# Altium footprint library DataAcquisitonBoard.PcbLib: 21 footprints (part 1 of 2)
Each footprint in its own frame and in the unit in brackets; x right, y up, seen from the top. Pads: shape width x height; smd on the part's side, far side on the other; paste and mask are expansions set on the pad; w line width, h text height; cw(c..) or ccw(c..) is an arc to the next point about the centre after c.
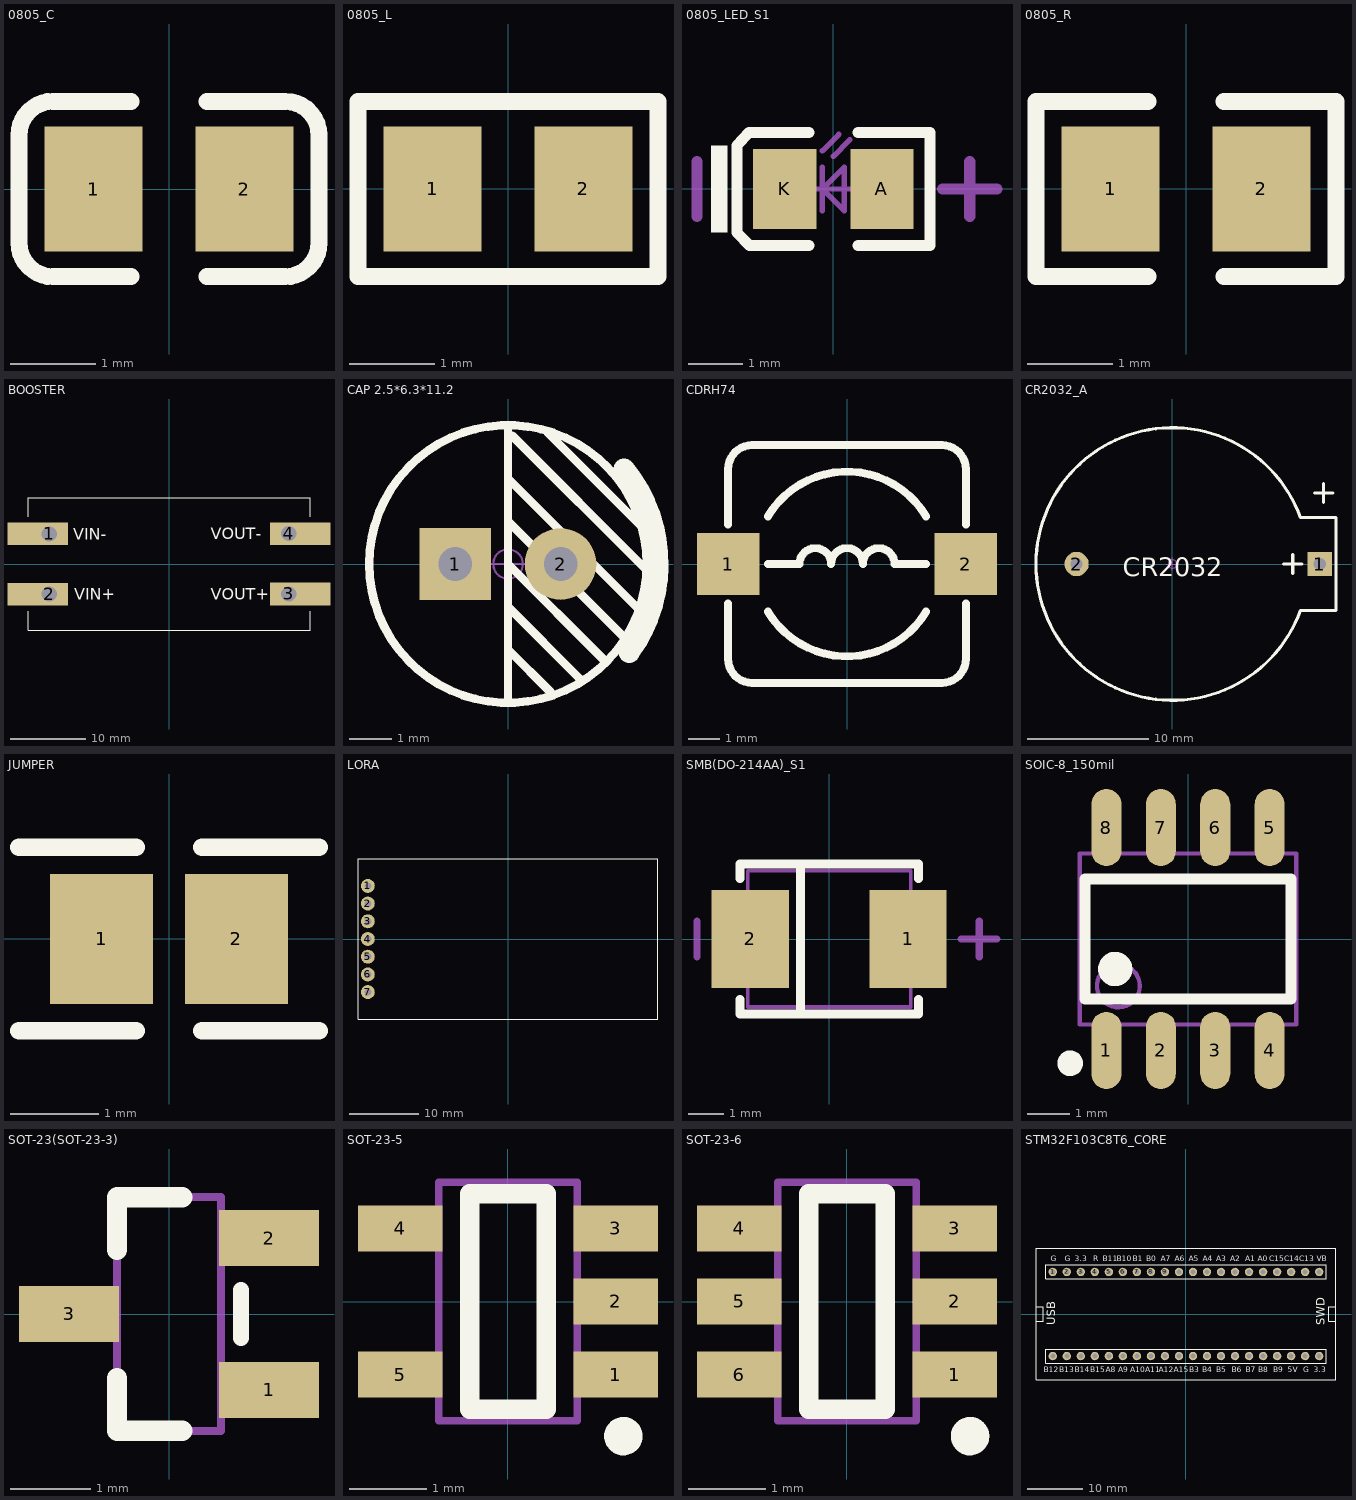
[diagram p0: the footprints below, top view; thin cyan lines are the x and y axes]

## 0805_C [mm]
pads (2):
  rect 1.16x1.47 smd: 1(-0.89,0) 2(0.89,0)
Top Overlay:
  lines w0.2: -0.45,-1.035 -1.37,-1.035 cw(c-1.37,-0.635) -1.77,-0.635 -1.77,0.635 cw(c-1.37,0.635) -1.37,1.035 -0.45,1.035 ; 0.45,-1.035 1.37,-1.035 ccw(c1.37,-0.635) 1.77,-0.635 1.77,0.635 ccw(c1.37,0.635) 1.37,1.035 0.45,1.035
3D body "User Library-0805 SMD Capacitor.STEP": height 0.77, standoff -0.01, extent -0.999,-0.625 1.001,0.625

## 0805_L [mm]
pads (2):
  rect 1.16x1.47 smd: 1(-0.89,0) 2(0.89,0)
Top Overlay:
  lines w0.2: -1.77,-1.035 -1.77,1.035 1.77,1.035 1.77,-1.035 -1.77,-1.035
3D body "L0805.STEP": height 0.6, standoff -0.02, extent -1.022,-0.637 1.028,0.638

## 0805_LED_S1 [mm]
pads (2):
  rect 1.16x1.47 smd: A(0.89,0) K(-0.89,0)
Top Overlay:
  rectangle: -2.245,-0.8 -1.945,0.8
  lines w0.2: -0.45,-1.035 -1.535,-1.035 -1.77,-0.8 -1.77,0.8 -1.55,1.035 -0.45,1.035 ; 0.45,-1.035 1.77,-1.035 1.77,1.035 0.45,1.035
Mechanical 13:
  lines w0.1: -0.4,0 0.4,0 ; -0.2,-0.4 -0.2,0.4 ; -0.2,0.7 0.1,1 ; 0,0.6 0.3,0.9 ; -0.2,0 0.2,0.4 0.2,-0.4 -0.2,0
Mechanical 15:
  lines w0.203: -2.5,-0.5 -2.5,0.5 ; 2,0 3,0 ; 2.5,-0.5 2.5,0.5
3D body "User Library-led_0805.step": height 1.1, standoff 0, extent -1.01,-0.625 1.01,0.625

## 0805_R [mm]
pads (2):
  rect 1.16x1.47 smd: 1(-0.89,0) 2(0.89,0)
Top Overlay:
  lines w0.2: -0.45,-1.035 -1.77,-1.035 -1.77,1.035 -0.45,1.035 ; 0.45,-1.035 1.77,-1.035 1.77,1.035 0.45,1.035
3D body "User Library-R_0805.STEP": height 0.49, standoff -0.01, extent -0.997,-0.625 1.003,0.625

## BOOSTER [mm] "DCDC升压模块"
pads (4):
  rect 8x3 hole 2 copper offset -1.5,0: 1(-15.9,3.988) 2(-15.9,-3.988)
  rect 8x3 hole 2 copper offset 1.5,0: 3(15.799,-3.962) 4(15.799,4.013)
Top Overlay:
  lines w0.152: -18.65,-6.255 -18.65,-8.75 0,-8.75 18.65,-8.75 18.65,-6.255 ; -18.65,6.255 -18.65,8.75 0,8.75 18.65,8.75 18.65,6.255
  text "VIN-" at -12.7,3.226 h1.52
  text "VIN+" at -12.573,-4.75 h1.52
  text "VOUT-" at 5.461,3.251 h1.52
  text "VOUT+" at 5.461,-4.724 h1.52

## CAP 2.5*6.3*11.2 [mm] "脚距2.5mm直径6.3mm高度11.2mm"
pads (2):
  rect 1.7x1.7 hole 0.8: 1(-1.25,0)
  round 1.7 hole 0.8: 2(1.25,0)
Top Overlay:
  circle w0.2: c0,0 r3.3
  lines w0.2: 0,-3.226 0,3.277 ; 0,-2.032 1.016,-3.048 ; 0,-1.016 1.727,-2.743 ; 0,0 2.299,-2.299 ; 0,1.016 2.769,-1.753 2.87,-1.753 ; 0,2.032 3.099,-1.067 ; 0,3.048 0.102,3.048 3.302,-0.152 ; 0.927,3.137 3.124,0.94 3.2,0.94
  lines w0.504: 2.759,2.258 cw(c0,0) 2.883,-2.097
Mechanical 15:
  circle w0.05: c0,0 r0.35
  lines w0.05: -0.5,0 0.5,0 ; 0,-0.5 0,0.5
3D body "CAP 2.5X6.3X11.2.STEP": height 11.23, standoff -3.38, extent -3.15,-3.15 3.16,3.15

## CDRH74 [mm] "7.3*7.3*4.5mm（长宽高）"
pads (2):
  rect 2x2 smd: 1(-3.81,0) 2(3.81,0)
Top Overlay:
  lines w0.254: -3.81,-1.27 -3.81,-3.048 ccw(c-3.048,-3.048) -3.048,-3.81 3.048,-3.81 ccw(c3.048,-3.048) 3.81,-3.048 3.81,-1.27 ; -3.81,1.27 -3.81,3.048 cw(c-3.048,3.048) -3.048,3.81 3.048,3.81 cw(c3.048,3.048) 3.81,3.048 3.81,1.27 ; -2.54,-1.524 ccw(c0,0) 2.54,-1.524 ; -2.54,0 -1.524,0 cw(c-1.016,0) -0.508,0 cw(c0,0) 0.508,0 cw(c1.016,0) 1.524,0 2.54,0 ; -2.54,1.524 cw(c0,0) 2.54,1.524
3D body "CDRH74.STEP": height 4.5, standoff 0, extent -3.65,-3.65 3.65,3.65

## CR2032_A [mm] "纽扣电池座"
pads (2):
  rect 2x2 hole 1: 1(12.126,0)
  round 2 hole 1: 2(-7.874,0)
Top Overlay:
  lines w0.254: 9.144,0 10.668,0 ; 9.906,-0.762 9.906,0.762 ; 11.684,5.842 13.208,5.842 ; 12.446,5.08 12.446,6.604 ; 10.541,-3.81 cw(c0,0) 10.541,3.81 13.462,3.81 13.462,-3.81 10.541,-3.81
  text "CR2032" at -4.064,-1.016 h1.52
Mechanical 15:
  circle w0.05: c0,0 r0.35
  lines w0.05: -0.5,0 0.5,0 ; 0,-0.5 0,0.5
3D body "CR2032_A.STEP": height 8.75, standoff -3.05, extent -11.1,-11.099 13.3,11.099

## JUMPER [mm]
pads (2):
  rect 1.16x1.47 smd: 1(-0.762,0) 2(0.762,0)
Top Overlay:
  lines w0.2: -1.694,-1.035 -0.374,-1.035 ; -1.694,1.035 -0.374,1.035 ; 0.374,-1.035 1.694,-1.035 ; 0.374,1.035 1.694,1.035
3D body "User Library-R_0805.STEP": height 0.49, standoff -0.01, extent -0.997,-0.625 1.003,0.625

## LORA [mm] "AS32-TTL-1W"
pads (7):
  round 2 hole 1: 1(-20.091,7.62) 2(-20.091,5.08) 3(-20.091,2.54) 4(-20.091,0) 5(-20.091,-2.54) 6(-20.091,-5.08) 7(-20.091,-7.62)
Top Overlay:
  lines w0.152: -21.5,-11.5 0,-11.5 21.5,-11.5 21.5,0 21.5,11.5 0,11.5 -21.5,11.5 -21.5,0 -21.5,-11.5

## SMB(DO-214AA)_S1 [mil]
pads (2):
  rect 85x107.99 smd: 1(87.01,0) 2(-87.01,0)
Top Overlay:
  lines w10: -98.43,-66.93 -98.43,-82.68 98.43,-82.68 98.43,-66.93 ; -98.43,66.93 -98.43,82.68 98.43,82.68 98.43,66.93 ; -31.5,-82.68 -31.5,82.68
Mechanical 13:
  lines w3.94: -89.96,-75 89.96,-75 89.96,75 -89.96,75 -89.96,-75
Mechanical 15:
  lines w8: -145.67,-19.68 -145.67,19.68 ; 145.67,0 185.04,0 ; 165.35,-19.68 165.35,19.68

## SOIC-8_150mil [mm]
pads (8):
  oval 0.7x1.8 smd: 1(-1.905,-2.6) 2(-0.635,-2.6) 3(0.635,-2.6) 4(1.905,-2.6) 5(1.905,2.6) 6(0.635,2.6) 7(-0.635,2.6) 8(-1.905,2.6)
Top Overlay:
  circle w0.4: c-1.7,-0.7 r0.2
  circle w0.3: c-2.75,-2.9 r0.15
  lines w0.254: -2.4,-1.4 -2.4,1.4 2.4,1.4 2.4,-1.4 -2.4,-1.4
Mechanical 13:
  circle w0.1: c-1.625,-1.095 r0.5
  lines w0.1: -2.525,-1.995 -2.525,1.995 2.525,1.995 2.525,-1.995 -2.525,-1.995

## SOT-23(SOT-23-3) [mm]
pads (3):
  rect 1.25x0.7 smd: 1(1.25,-0.95) 2(1.25,0.95) 3(-1.25,0)
Top Overlay:
  lines w0.2: 0.9,-0.3 0.9,0.3
  lines w0.254: -0.65,-0.8 -0.65,-1.46 0.165,-1.46 ; 0.165,1.46 -0.65,1.46 ; -0.65,0.8 -0.65,1.46 ; -0.65,0.8 -0.65,1.46 ; -0.65,0.8 -0.65,1.46
Mechanical 13:
  lines w0.1: -0.65,-1.46 -0.65,1.46 ; -0.65,-1.46 0.65,-1.46 ; -0.65,-1.46 -0.65,1.46 ; -0.65,-1.46 0.65,-1.46 ; -0.65,-1.46 0.65,-1.46 ; -0.65,-1.46 -0.65,1.46 ; -0.65,1.46 0.65,1.46 ; -0.65,1.46 0.65,1.46 ; -0.65,1.46 0.65,1.46 ; 0.65,-1.46 0.65,1.46 ; 0.65,-1.46 0.65,1.46 ; 0.65,-1.46 0.65,1.46
3D body "SOT-23.step": height 1.3, standoff 0, extent -1.5,-1.5 1.5,1.5

## SOT-23-5 [mm]
pads (5):
  rect 1.1x0.6 smd: 1(1.4,-0.95) 2(1.4,0) 3(1.4,0.95) 4(-1.4,0.95) 5(-1.4,-0.95)
Top Overlay:
  circle w0.25: c1.5,-1.75 r0.125
  lines w0.254: -0.5,-1.4 -0.5,1.4 0.5,1.4 0.5,-1.4 -0.5,-1.4
Mechanical 13:
  lines w0.1: -0.9,-1.55 0.9,-1.55 0.9,1.55 -0.9,1.55 -0.9,-1.55

## SOT-23-6 [mm]
pads (6):
  rect 1.1x0.6 smd: 1(1.4,-0.95) 2(1.4,0) 3(1.4,0.95) 4(-1.4,0.95) 5(-1.4,0) 6(-1.4,-0.95)
Top Overlay:
  circle w0.25: c1.6,-1.75 r0.125
  lines w0.254: -0.5,-1.4 0.5,-1.4 0.5,1.4 -0.5,1.4 -0.5,-1.4
Mechanical 13:
  lines w0.1: -0.9,-1.55 0.9,-1.55 0.9,1.55 -0.9,1.55 -0.9,-1.55

## STM32F103C8T6_CORE [mil] "STM32F103C8T6核心板"
pads (40):
  round 60 hole 35.43: 1(-950,300) 2(-850,300) 3(-750,300) 4(-650,300) 5(-550,300) 6(-450,300) 7(-350,300) 8(-250,300) 9(-150,300) 10(-50,300) 11(50,300) 12(150,300) 13(250,300) 14(350,300) 15(450,300) 16(550,300) 17(650,300) 18(750,300) 19(850,300) 20(950,300) 21(-950,-300) 22(-850,-300) 23(-750,-300) 24(-650,-300) 25(-550,-300) 26(-450,-300) 27(-350,-300) 28(-250,-300) 29(-150,-300) 30(-50,-300) 31(50,-300) 32(150,-300) 33(250,-300) 34(350,-300) 35(450,-300) 36(550,-300) 37(650,-300) 38(750,-300) 39(850,-300) 40(950,-300)
Top Overlay:
  lines w5.98: -1069,50 -1019,50 -1019,0 -1019,-50 -1068,-50 ; 1069,50 1020,50 1020,0 1020,-50 1070,-50 ; -1069.68,-469.69 0,-469.69 1069.68,-469.69 1069.68,0 1069.68,469.69 0,469.69 -1069.68,469.69 -1069.68,0 -1069.68,-469.69 ; -1000,-350 1000,-350 1000,-300 1000,-250 -1000,-250 -1000,-300 -1000,-350 ; -1000,250 -1000,300 -1000,350 1000,350 1000,300 1000,250 -1000,250
  text "SWD" at 990,-80 h60
  text "USB" at -934,-79 h60
  text "G" at -963,376 h40
  text "G" at -863,376 h40
  text "3.3" at -794,376 h40
  text "VB" at 932,376 h40
  text "A7" at -181,376 h40
  text "C15C14C13" at 593,376 h40
  text "A6" at -81,376 h40
  text "A5" at 20,376 h40
  text "A4" at 118,376 h40
  text "A3" at 217.43,376 h40
  text "A2" at 315.29,376 h40
  text "A1" at 422,376 h40
  text "A0" at 511,376 h40
  text "B0" at -284,376 h40
  text "B1" at -379,376 h40
  text "B10" at -494,376 h40
  text "B11" at -593,376 h40
  text "R" at -663,376 h40
  text "3.3" at 912,-417 h40
  text "G" at 837,-417 h40
  text "5V" at 727,-417 h40
  text "B9" at 622,-417 h40
  text "B8" at 517,-417 h40
  text "B7" at 427,-417 h40
  text "B6" at 327,-417 h40
  text "B5" at 217,-417 h40
  text "B4" at 117,-417 h40
  text "B3" at 25,-417 h40
  text "A15" at -87,-417 h40
  text "A12" at -195,-417 h40
  text "A11" at -290,-417 h40
  text "A10" at -398,-417 h40
  text "A9" at -483,-417 h40
  text "A8" at -573,-417 h40
  text "B15" at -683,-417 h40
  text "B14" at -793,-417 h40
  text "B13" at -903,-417 h40
  text "B12" at -1013,-417 h40